# Altium footprint library TerminalBlock_Altech.PcbLib: 46 footprints (part 2 of 4)
Each footprint in its own frame and in the unit in brackets; x right, y up, seen from the top. Pads: shape width x height; smd on the part's side, far side on the other; paste and mask are expansions set on the pad; w line width, h text height; cw(c..) or ccw(c..) is an arc to the next point about the centre after c.
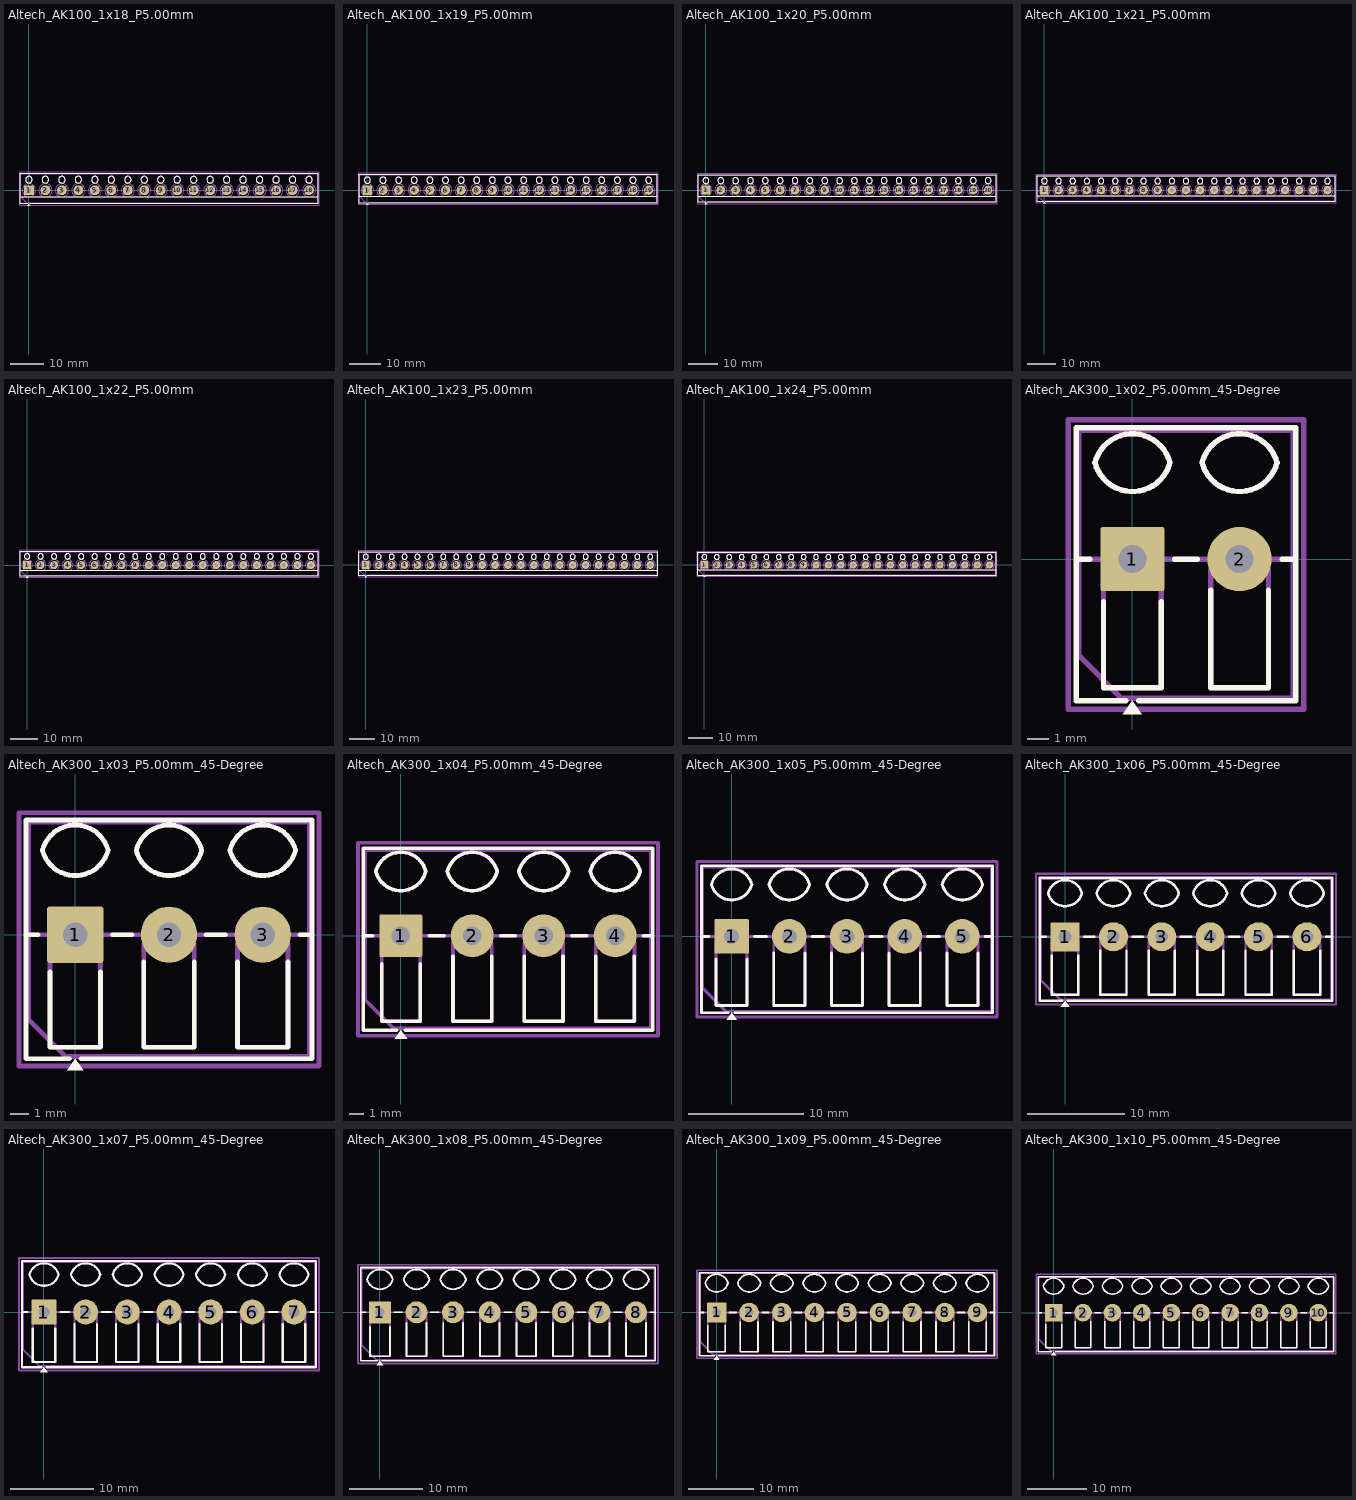
[diagram p1: the footprints below, top view; thin cyan lines are the x and y axes]

## Altech_AK100_1x18_P5.00mm [mm]
pads (18):
  rrect8% 3x3 hole 1.3: 1(0,0)
  round 3 hole 1.3: 2(5,0) 3(10,0) 4(15,0) 5(20,0) 6(25,0) 7(30,0) 8(35,0) 9(40,0) 10(45,0) 11(50,0) 12(55,0) 13(60,0) 14(65,0) 15(70,0) 16(75,0) 17(80,0) 18(85,0)
F.SilkS:
  circle w0.254: c0,3.2 r1
  circle w0.254: c5,3.2 r1
  circle w0.254: c10,3.2 r1
  circle w0.254: c15,3.2 r1
  circle w0.254: c20,3.2 r1
  circle w0.254: c25,3.2 r1
  circle w0.254: c30,3.2 r1
  circle w0.254: c35,3.2 r1
  circle w0.254: c40,3.2 r1
  circle w0.254: c45,3.2 r1
  circle w0.254: c50,3.2 r1
  circle w0.254: c55,3.2 r1
  circle w0.254: c60,3.2 r1
  circle w0.254: c65,3.2 r1
  circle w0.254: c70,3.2 r1
  circle w0.254: c75,3.2 r1
  circle w0.254: c80,3.2 r1
  circle w0.254: c85,3.2 r1
  region: 0.44,-4.73 -0.44,-4.73 0,-4.12
  lines w0.254: -2.62,-2 87.62,-2 ; -0.3,-4.12 -2.62,-4.12 -2.62,5.12 87.62,5.12 87.62,-4.12 0.3,-4.12
F.Fab:
  circle w0.254: c0,3.2 r1
  circle w0.254: c0,0 r2
  circle w0.254: c5,3.2 r1
  circle w0.254: c5,0 r2
  circle w0.254: c10,3.2 r1
  circle w0.254: c10,0 r2
  circle w0.254: c15,3.2 r1
  circle w0.254: c15,0 r2
  circle w0.254: c20,3.2 r1
  circle w0.254: c20,0 r2
  circle w0.254: c25,3.2 r1
  circle w0.254: c25,0 r2
  circle w0.254: c30,3.2 r1
  circle w0.254: c30,0 r2
  circle w0.254: c35,3.2 r1
  circle w0.254: c35,0 r2
  circle w0.254: c40,3.2 r1
  circle w0.254: c40,0 r2
  circle w0.254: c45,3.2 r1
  circle w0.254: c45,0 r2
  circle w0.254: c50,3.2 r1
  circle w0.254: c50,0 r2
  circle w0.254: c55,3.2 r1
  circle w0.254: c55,0 r2
  circle w0.254: c60,3.2 r1
  circle w0.254: c60,0 r2
  circle w0.254: c65,3.2 r1
  circle w0.254: c65,0 r2
  circle w0.254: c70,3.2 r1
  circle w0.254: c70,0 r2
  circle w0.254: c75,3.2 r1
  circle w0.254: c75,0 r2
  circle w0.254: c80,3.2 r1
  circle w0.254: c80,0 r2
  circle w0.254: c85,3.2 r1
  circle w0.254: c85,0 r2
  lines w0.254: -1.517,-1.273 1.273,1.517 ; -1.273,-1.517 1.517,1.273 ; 3.483,-1.273 6.273,1.517 ; 3.727,-1.517 6.517,1.273 ; 8.483,-1.273 11.273,1.517 ; 8.727,-1.517 11.517,1.273 ; 13.483,-1.273 16.273,1.517 ; 13.727,-1.517 16.517,1.273 ; 18.483,-1.273 21.273,1.517 ; 18.727,-1.517 21.517,1.273 ; 23.483,-1.273 26.273,1.517 ; 23.727,-1.517 26.517,1.273 ; 28.483,-1.273 31.273,1.517 ; 28.727,-1.517 31.517,1.273 ; 33.483,-1.273 36.273,1.517 ; 33.727,-1.517 36.517,1.273 ; 38.483,-1.273 41.273,1.517 ; 38.727,-1.517 41.517,1.273 ; 43.483,-1.273 46.273,1.517 ; 43.727,-1.517 46.517,1.273 ; 48.483,-1.273 51.273,1.517 ; 48.727,-1.517 51.517,1.273 ; 53.483,-1.273 56.273,1.517 ; 53.727,-1.517 56.517,1.273 ; 58.483,-1.273 61.273,1.517 ; 58.727,-1.517 61.517,1.273 ; 63.483,-1.273 66.273,1.517 ; 63.727,-1.517 66.517,1.273 ; 68.483,-1.273 71.273,1.517 ; 68.727,-1.517 71.517,1.273 ; 73.483,-1.273 76.273,1.517 ; 73.727,-1.517 76.517,1.273 ; 78.483,-1.273 81.273,1.517 ; 78.727,-1.517 81.517,1.273 ; 83.483,-1.273 86.273,1.517 ; 83.727,-1.517 86.517,1.273 ; 87.5,-2 -2.5,-2 ; -2.5,-2 -2.5,5 87.5,5 87.5,-4 -0.5,-4 -2.5,-2
  text "'.Designator'" at 38.453,-3.94 h1
F.CrtYd:
  lines w0.254: -3,-4.5 -3,5.5 88,5.5 88,-4.5 -3,-4.5

## Altech_AK100_1x19_P5.00mm [mm]
pads (19):
  rrect8% 3x3 hole 1.3: 1(0,0)
  round 3 hole 1.3: 2(5,0) 3(10,0) 4(15,0) 5(20,0) 6(25,0) 7(30,0) 8(35,0) 9(40,0) 10(45,0) 11(50,0) 12(55,0) 13(60,0) 14(65,0) 15(70,0) 16(75,0) 17(80,0) 18(85,0) 19(90,0)
F.SilkS:
  circle w0.254: c0,3.2 r1
  circle w0.254: c5,3.2 r1
  circle w0.254: c10,3.2 r1
  circle w0.254: c15,3.2 r1
  circle w0.254: c20,3.2 r1
  circle w0.254: c25,3.2 r1
  circle w0.254: c30,3.2 r1
  circle w0.254: c35,3.2 r1
  circle w0.254: c40,3.2 r1
  circle w0.254: c45,3.2 r1
  circle w0.254: c50,3.2 r1
  circle w0.254: c55,3.2 r1
  circle w0.254: c60,3.2 r1
  circle w0.254: c65,3.2 r1
  circle w0.254: c70,3.2 r1
  circle w0.254: c75,3.2 r1
  circle w0.254: c80,3.2 r1
  circle w0.254: c85,3.2 r1
  circle w0.254: c90,3.2 r1
  region: 0.44,-4.73 -0.44,-4.73 0,-4.12
  lines w0.254: -2.62,-2 92.62,-2 ; -0.3,-4.12 -2.62,-4.12 -2.62,5.12 92.62,5.12 92.62,-4.12 0.3,-4.12
F.Fab:
  circle w0.254: c0,3.2 r1
  circle w0.254: c0,0 r2
  circle w0.254: c5,3.2 r1
  circle w0.254: c5,0 r2
  circle w0.254: c10,3.2 r1
  circle w0.254: c10,0 r2
  circle w0.254: c15,3.2 r1
  circle w0.254: c15,0 r2
  circle w0.254: c20,3.2 r1
  circle w0.254: c20,0 r2
  circle w0.254: c25,3.2 r1
  circle w0.254: c25,0 r2
  circle w0.254: c30,3.2 r1
  circle w0.254: c30,0 r2
  circle w0.254: c35,3.2 r1
  circle w0.254: c35,0 r2
  circle w0.254: c40,3.2 r1
  circle w0.254: c40,0 r2
  circle w0.254: c45,3.2 r1
  circle w0.254: c45,0 r2
  circle w0.254: c50,3.2 r1
  circle w0.254: c50,0 r2
  circle w0.254: c55,3.2 r1
  circle w0.254: c55,0 r2
  circle w0.254: c60,3.2 r1
  circle w0.254: c60,0 r2
  circle w0.254: c65,3.2 r1
  circle w0.254: c65,0 r2
  circle w0.254: c70,3.2 r1
  circle w0.254: c70,0 r2
  circle w0.254: c75,3.2 r1
  circle w0.254: c75,0 r2
  circle w0.254: c80,3.2 r1
  circle w0.254: c80,0 r2
  circle w0.254: c85,3.2 r1
  circle w0.254: c85,0 r2
  circle w0.254: c90,3.2 r1
  circle w0.254: c90,0 r2
  lines w0.254: -1.517,-1.273 1.273,1.517 ; -1.273,-1.517 1.517,1.273 ; 3.483,-1.273 6.273,1.517 ; 3.727,-1.517 6.517,1.273 ; 8.483,-1.273 11.273,1.517 ; 8.727,-1.517 11.517,1.273 ; 13.483,-1.273 16.273,1.517 ; 13.727,-1.517 16.517,1.273 ; 18.483,-1.273 21.273,1.517 ; 18.727,-1.517 21.517,1.273 ; 23.483,-1.273 26.273,1.517 ; 23.727,-1.517 26.517,1.273 ; 28.483,-1.273 31.273,1.517 ; 28.727,-1.517 31.517,1.273 ; 33.483,-1.273 36.273,1.517 ; 33.727,-1.517 36.517,1.273 ; 38.483,-1.273 41.273,1.517 ; 38.727,-1.517 41.517,1.273 ; 43.483,-1.273 46.273,1.517 ; 43.727,-1.517 46.517,1.273 ; 48.483,-1.273 51.273,1.517 ; 48.727,-1.517 51.517,1.273 ; 53.483,-1.273 56.273,1.517 ; 53.727,-1.517 56.517,1.273 ; 58.483,-1.273 61.273,1.517 ; 58.727,-1.517 61.517,1.273 ; 63.483,-1.273 66.273,1.517 ; 63.727,-1.517 66.517,1.273 ; 68.483,-1.273 71.273,1.517 ; 68.727,-1.517 71.517,1.273 ; 73.483,-1.273 76.273,1.517 ; 73.727,-1.517 76.517,1.273 ; 78.483,-1.273 81.273,1.517 ; 78.727,-1.517 81.517,1.273 ; 83.483,-1.273 86.273,1.517 ; 83.727,-1.517 86.517,1.273 ; 88.483,-1.273 91.273,1.517 ; 88.727,-1.517 91.517,1.273 ; 92.5,-2 -2.5,-2 ; -2.5,-2 -2.5,5 92.5,5 92.5,-4 -0.5,-4 -2.5,-2
  text "'.Designator'" at 40.953,-3.94 h1
F.CrtYd:
  lines w0.254: -3,-4.5 -3,5.5 93,5.5 93,-4.5 -3,-4.5

## Altech_AK100_1x20_P5.00mm [mm]
pads (20):
  rrect8% 3x3 hole 1.3: 1(0,0)
  round 3 hole 1.3: 2(5,0) 3(10,0) 4(15,0) 5(20,0) 6(25,0) 7(30,0) 8(35,0) 9(40,0) 10(45,0) 11(50,0) 12(55,0) 13(60,0) 14(65,0) 15(70,0) 16(75,0) 17(80,0) 18(85,0) 19(90,0) 20(95,0)
F.SilkS:
  circle w0.254: c0,3.2 r1
  circle w0.254: c5,3.2 r1
  circle w0.254: c10,3.2 r1
  circle w0.254: c15,3.2 r1
  circle w0.254: c20,3.2 r1
  circle w0.254: c25,3.2 r1
  circle w0.254: c30,3.2 r1
  circle w0.254: c35,3.2 r1
  circle w0.254: c40,3.2 r1
  circle w0.254: c45,3.2 r1
  circle w0.254: c50,3.2 r1
  circle w0.254: c55,3.2 r1
  circle w0.254: c60,3.2 r1
  circle w0.254: c65,3.2 r1
  circle w0.254: c70,3.2 r1
  circle w0.254: c75,3.2 r1
  circle w0.254: c80,3.2 r1
  circle w0.254: c85,3.2 r1
  circle w0.254: c90,3.2 r1
  circle w0.254: c95,3.2 r1
  region: 0.44,-4.73 -0.44,-4.73 0,-4.12
  lines w0.254: -2.62,-2 97.62,-2 ; -0.3,-4.12 -2.62,-4.12 -2.62,5.12 97.62,5.12 97.62,-4.12 0.3,-4.12
F.Fab:
  circle w0.254: c0,3.2 r1
  circle w0.254: c0,0 r2
  circle w0.254: c5,3.2 r1
  circle w0.254: c5,0 r2
  circle w0.254: c10,3.2 r1
  circle w0.254: c10,0 r2
  circle w0.254: c15,3.2 r1
  circle w0.254: c15,0 r2
  circle w0.254: c20,3.2 r1
  circle w0.254: c20,0 r2
  circle w0.254: c25,3.2 r1
  circle w0.254: c25,0 r2
  circle w0.254: c30,3.2 r1
  circle w0.254: c30,0 r2
  circle w0.254: c35,3.2 r1
  circle w0.254: c35,0 r2
  circle w0.254: c40,3.2 r1
  circle w0.254: c40,0 r2
  circle w0.254: c45,3.2 r1
  circle w0.254: c45,0 r2
  circle w0.254: c50,3.2 r1
  circle w0.254: c50,0 r2
  circle w0.254: c55,3.2 r1
  circle w0.254: c55,0 r2
  circle w0.254: c60,3.2 r1
  circle w0.254: c60,0 r2
  circle w0.254: c65,3.2 r1
  circle w0.254: c65,0 r2
  circle w0.254: c70,3.2 r1
  circle w0.254: c70,0 r2
  circle w0.254: c75,3.2 r1
  circle w0.254: c75,0 r2
  circle w0.254: c80,3.2 r1
  circle w0.254: c80,0 r2
  circle w0.254: c85,3.2 r1
  circle w0.254: c85,0 r2
  circle w0.254: c90,3.2 r1
  circle w0.254: c90,0 r2
  circle w0.254: c95,3.2 r1
  circle w0.254: c95,0 r2
  lines w0.254: -1.517,-1.273 1.273,1.517 ; -1.273,-1.517 1.517,1.273 ; 3.483,-1.273 6.273,1.517 ; 3.727,-1.517 6.517,1.273 ; 8.483,-1.273 11.273,1.517 ; 8.727,-1.517 11.517,1.273 ; 13.483,-1.273 16.273,1.517 ; 13.727,-1.517 16.517,1.273 ; 18.483,-1.273 21.273,1.517 ; 18.727,-1.517 21.517,1.273 ; 23.483,-1.273 26.273,1.517 ; 23.727,-1.517 26.517,1.273 ; 28.483,-1.273 31.273,1.517 ; 28.727,-1.517 31.517,1.273 ; 33.483,-1.273 36.273,1.517 ; 33.727,-1.517 36.517,1.273 ; 38.483,-1.273 41.273,1.517 ; 38.727,-1.517 41.517,1.273 ; 43.483,-1.273 46.273,1.517 ; 43.727,-1.517 46.517,1.273 ; 48.483,-1.273 51.273,1.517 ; 48.727,-1.517 51.517,1.273 ; 53.483,-1.273 56.273,1.517 ; 53.727,-1.517 56.517,1.273 ; 58.483,-1.273 61.273,1.517 ; 58.727,-1.517 61.517,1.273 ; 63.483,-1.273 66.273,1.517 ; 63.727,-1.517 66.517,1.273 ; 68.483,-1.273 71.273,1.517 ; 68.727,-1.517 71.517,1.273 ; 73.483,-1.273 76.273,1.517 ; 73.727,-1.517 76.517,1.273 ; 78.483,-1.273 81.273,1.517 ; 78.727,-1.517 81.517,1.273 ; 83.483,-1.273 86.273,1.517 ; 83.727,-1.517 86.517,1.273 ; 88.483,-1.273 91.273,1.517 ; 88.727,-1.517 91.517,1.273 ; 93.483,-1.273 96.273,1.517 ; 93.727,-1.517 96.517,1.273 ; 97.5,-2 -2.5,-2 ; -2.5,-2 -2.5,5 97.5,5 97.5,-4 -0.5,-4 -2.5,-2
  text "'.Designator'" at 43.453,-3.94 h1
F.CrtYd:
  lines w0.254: -3,-4.5 -3,5.5 98,5.5 98,-4.5 -3,-4.5

## Altech_AK100_1x21_P5.00mm [mm]
pads (21):
  rrect8% 3x3 hole 1.3: 1(0,0)
  round 3 hole 1.3: 2(5,0) 3(10,0) 4(15,0) 5(20,0) 6(25,0) 7(30,0) 8(35,0) 9(40,0) 10(45,0) 11(50,0) 12(55,0) 13(60,0) 14(65,0) 15(70,0) 16(75,0) 17(80,0) 18(85,0) 19(90,0) 20(95,0) 21(100,0)
F.SilkS:
  circle w0.254: c0,3.2 r1
  circle w0.254: c5,3.2 r1
  circle w0.254: c10,3.2 r1
  circle w0.254: c15,3.2 r1
  circle w0.254: c20,3.2 r1
  circle w0.254: c25,3.2 r1
  circle w0.254: c30,3.2 r1
  circle w0.254: c35,3.2 r1
  circle w0.254: c40,3.2 r1
  circle w0.254: c45,3.2 r1
  circle w0.254: c50,3.2 r1
  circle w0.254: c55,3.2 r1
  circle w0.254: c60,3.2 r1
  circle w0.254: c65,3.2 r1
  circle w0.254: c70,3.2 r1
  circle w0.254: c75,3.2 r1
  circle w0.254: c80,3.2 r1
  circle w0.254: c85,3.2 r1
  circle w0.254: c90,3.2 r1
  circle w0.254: c95,3.2 r1
  circle w0.254: c100,3.2 r1
  region: 0.44,-4.73 -0.44,-4.73 0,-4.12
  lines w0.254: -2.62,-2 102.62,-2 ; -0.3,-4.12 -2.62,-4.12 -2.62,5.12 102.62,5.12 102.62,-4.12 0.3,-4.12
F.Fab:
  circle w0.254: c0,3.2 r1
  circle w0.254: c0,0 r2
  circle w0.254: c5,3.2 r1
  circle w0.254: c5,0 r2
  circle w0.254: c10,3.2 r1
  circle w0.254: c10,0 r2
  circle w0.254: c15,3.2 r1
  circle w0.254: c15,0 r2
  circle w0.254: c20,3.2 r1
  circle w0.254: c20,0 r2
  circle w0.254: c25,3.2 r1
  circle w0.254: c25,0 r2
  circle w0.254: c30,3.2 r1
  circle w0.254: c30,0 r2
  circle w0.254: c35,3.2 r1
  circle w0.254: c35,0 r2
  circle w0.254: c40,3.2 r1
  circle w0.254: c40,0 r2
  circle w0.254: c45,3.2 r1
  circle w0.254: c45,0 r2
  circle w0.254: c50,3.2 r1
  circle w0.254: c50,0 r2
  circle w0.254: c55,3.2 r1
  circle w0.254: c55,0 r2
  circle w0.254: c60,3.2 r1
  circle w0.254: c60,0 r2
  circle w0.254: c65,3.2 r1
  circle w0.254: c65,0 r2
  circle w0.254: c70,3.2 r1
  circle w0.254: c70,0 r2
  circle w0.254: c75,3.2 r1
  circle w0.254: c75,0 r2
  circle w0.254: c80,3.2 r1
  circle w0.254: c80,0 r2
  circle w0.254: c85,3.2 r1
  circle w0.254: c85,0 r2
  circle w0.254: c90,3.2 r1
  circle w0.254: c90,0 r2
  circle w0.254: c95,3.2 r1
  circle w0.254: c95,0 r2
  circle w0.254: c100,3.2 r1
  circle w0.254: c100,0 r2
  lines w0.254: -1.517,-1.273 1.273,1.517 ; -1.273,-1.517 1.517,1.273 ; 3.483,-1.273 6.273,1.517 ; 3.727,-1.517 6.517,1.273 ; 8.483,-1.273 11.273,1.517 ; 8.727,-1.517 11.517,1.273 ; 13.483,-1.273 16.273,1.517 ; 13.727,-1.517 16.517,1.273 ; 18.483,-1.273 21.273,1.517 ; 18.727,-1.517 21.517,1.273 ; 23.483,-1.273 26.273,1.517 ; 23.727,-1.517 26.517,1.273 ; 28.483,-1.273 31.273,1.517 ; 28.727,-1.517 31.517,1.273 ; 33.483,-1.273 36.273,1.517 ; 33.727,-1.517 36.517,1.273 ; 38.483,-1.273 41.273,1.517 ; 38.727,-1.517 41.517,1.273 ; 43.483,-1.273 46.273,1.517 ; 43.727,-1.517 46.517,1.273 ; 48.483,-1.273 51.273,1.517 ; 48.727,-1.517 51.517,1.273 ; 53.483,-1.273 56.273,1.517 ; 53.727,-1.517 56.517,1.273 ; 58.483,-1.273 61.273,1.517 ; 58.727,-1.517 61.517,1.273 ; 63.483,-1.273 66.273,1.517 ; 63.727,-1.517 66.517,1.273 ; 68.483,-1.273 71.273,1.517 ; 68.727,-1.517 71.517,1.273 ; 73.483,-1.273 76.273,1.517 ; 73.727,-1.517 76.517,1.273 ; 78.483,-1.273 81.273,1.517 ; 78.727,-1.517 81.517,1.273 ; 83.483,-1.273 86.273,1.517 ; 83.727,-1.517 86.517,1.273 ; 88.483,-1.273 91.273,1.517 ; 88.727,-1.517 91.517,1.273 ; 93.483,-1.273 96.273,1.517 ; 93.727,-1.517 96.517,1.273 ; 98.483,-1.273 101.273,1.517 ; 98.727,-1.517 101.517,1.273 ; 102.5,-2 -2.5,-2 ; -2.5,-2 -2.5,5 102.5,5 102.5,-4 -0.5,-4 -2.5,-2
  text "'.Designator'" at 45.953,-3.94 h1
F.CrtYd:
  lines w0.254: -3,-4.5 -3,5.5 103,5.5 103,-4.5 -3,-4.5

## Altech_AK100_1x22_P5.00mm [mm]
pads (22):
  rrect8% 3x3 hole 1.3: 1(0,0)
  round 3 hole 1.3: 2(5,0) 3(10,0) 4(15,0) 5(20,0) 6(25,0) 7(30,0) 8(35,0) 9(40,0) 10(45,0) 11(50,0) 12(55,0) 13(60,0) 14(65,0) 15(70,0) 16(75,0) 17(80,0) 18(85,0) 19(90,0) 20(95,0) 21(100,0) 22(105,0)
F.SilkS:
  circle w0.254: c0,3.2 r1
  circle w0.254: c5,3.2 r1
  circle w0.254: c10,3.2 r1
  circle w0.254: c15,3.2 r1
  circle w0.254: c20,3.2 r1
  circle w0.254: c25,3.2 r1
  circle w0.254: c30,3.2 r1
  circle w0.254: c35,3.2 r1
  circle w0.254: c40,3.2 r1
  circle w0.254: c45,3.2 r1
  circle w0.254: c50,3.2 r1
  circle w0.254: c55,3.2 r1
  circle w0.254: c60,3.2 r1
  circle w0.254: c65,3.2 r1
  circle w0.254: c70,3.2 r1
  circle w0.254: c75,3.2 r1
  circle w0.254: c80,3.2 r1
  circle w0.254: c85,3.2 r1
  circle w0.254: c90,3.2 r1
  circle w0.254: c95,3.2 r1
  circle w0.254: c100,3.2 r1
  circle w0.254: c105,3.2 r1
  region: 0.44,-4.73 -0.44,-4.73 0,-4.12
  lines w0.254: -2.62,-2 107.62,-2 ; -0.3,-4.12 -2.62,-4.12 -2.62,5.12 107.62,5.12 107.62,-4.12 0.3,-4.12
F.Fab:
  circle w0.254: c0,3.2 r1
  circle w0.254: c0,0 r2
  circle w0.254: c5,3.2 r1
  circle w0.254: c5,0 r2
  circle w0.254: c10,3.2 r1
  circle w0.254: c10,0 r2
  circle w0.254: c15,3.2 r1
  circle w0.254: c15,0 r2
  circle w0.254: c20,3.2 r1
  circle w0.254: c20,0 r2
  circle w0.254: c25,3.2 r1
  circle w0.254: c25,0 r2
  circle w0.254: c30,3.2 r1
  circle w0.254: c30,0 r2
  circle w0.254: c35,3.2 r1
  circle w0.254: c35,0 r2
  circle w0.254: c40,3.2 r1
  circle w0.254: c40,0 r2
  circle w0.254: c45,3.2 r1
  circle w0.254: c45,0 r2
  circle w0.254: c50,3.2 r1
  circle w0.254: c50,0 r2
  circle w0.254: c55,3.2 r1
  circle w0.254: c55,0 r2
  circle w0.254: c60,3.2 r1
  circle w0.254: c60,0 r2
  circle w0.254: c65,3.2 r1
  circle w0.254: c65,0 r2
  circle w0.254: c70,3.2 r1
  circle w0.254: c70,0 r2
  circle w0.254: c75,3.2 r1
  circle w0.254: c75,0 r2
  circle w0.254: c80,3.2 r1
  circle w0.254: c80,0 r2
  circle w0.254: c85,3.2 r1
  circle w0.254: c85,0 r2
  circle w0.254: c90,3.2 r1
  circle w0.254: c90,0 r2
  circle w0.254: c95,3.2 r1
  circle w0.254: c95,0 r2
  circle w0.254: c100,3.2 r1
  circle w0.254: c100,0 r2
  circle w0.254: c105,3.2 r1
  circle w0.254: c105,0 r2
  lines w0.254: -1.517,-1.273 1.273,1.517 ; -1.273,-1.517 1.517,1.273 ; 3.483,-1.273 6.273,1.517 ; 3.727,-1.517 6.517,1.273 ; 8.483,-1.273 11.273,1.517 ; 8.727,-1.517 11.517,1.273 ; 13.483,-1.273 16.273,1.517 ; 13.727,-1.517 16.517,1.273 ; 18.483,-1.273 21.273,1.517 ; 18.727,-1.517 21.517,1.273 ; 23.483,-1.273 26.273,1.517 ; 23.727,-1.517 26.517,1.273 ; 28.483,-1.273 31.273,1.517 ; 28.727,-1.517 31.517,1.273 ; 33.483,-1.273 36.273,1.517 ; 33.727,-1.517 36.517,1.273 ; 38.483,-1.273 41.273,1.517 ; 38.727,-1.517 41.517,1.273 ; 43.483,-1.273 46.273,1.517 ; 43.727,-1.517 46.517,1.273 ; 48.483,-1.273 51.273,1.517 ; 48.727,-1.517 51.517,1.273 ; 53.483,-1.273 56.273,1.517 ; 53.727,-1.517 56.517,1.273 ; 58.483,-1.273 61.273,1.517 ; 58.727,-1.517 61.517,1.273 ; 63.483,-1.273 66.273,1.517 ; 63.727,-1.517 66.517,1.273 ; 68.483,-1.273 71.273,1.517 ; 68.727,-1.517 71.517,1.273 ; 73.483,-1.273 76.273,1.517 ; 73.727,-1.517 76.517,1.273 ; 78.483,-1.273 81.273,1.517 ; 78.727,-1.517 81.517,1.273 ; 83.483,-1.273 86.273,1.517 ; 83.727,-1.517 86.517,1.273 ; 88.483,-1.273 91.273,1.517 ; 88.727,-1.517 91.517,1.273 ; 93.483,-1.273 96.273,1.517 ; 93.727,-1.517 96.517,1.273 ; 98.483,-1.273 101.273,1.517 ; 98.727,-1.517 101.517,1.273 ; 103.483,-1.273 106.273,1.517 ; 103.727,-1.517 106.517,1.273 ; 107.5,-2 -2.5,-2 ; -2.5,-2 -2.5,5 107.5,5 107.5,-4 -0.5,-4 -2.5,-2
  text "'.Designator'" at 48.453,-3.94 h1
F.CrtYd:
  lines w0.254: -3,-4.5 -3,5.5 108,5.5 108,-4.5 -3,-4.5

## Altech_AK100_1x23_P5.00mm [mm]
pads (23):
  rrect8% 3x3 hole 1.3: 1(0,0)
  round 3 hole 1.3: 2(5,0) 3(10,0) 4(15,0) 5(20,0) 6(25,0) 7(30,0) 8(35,0) 9(40,0) 10(45,0) 11(50,0) 12(55,0) 13(60,0) 14(65,0) 15(70,0) 16(75,0) 17(80,0) 18(85,0) 19(90,0) 20(95,0) 21(100,0) 22(105,0) 23(110,0)
F.SilkS:
  circle w0.254: c0,3.2 r1
  circle w0.254: c5,3.2 r1
  circle w0.254: c10,3.2 r1
  circle w0.254: c15,3.2 r1
  circle w0.254: c20,3.2 r1
  circle w0.254: c25,3.2 r1
  circle w0.254: c30,3.2 r1
  circle w0.254: c35,3.2 r1
  circle w0.254: c40,3.2 r1
  circle w0.254: c45,3.2 r1
  circle w0.254: c50,3.2 r1
  circle w0.254: c55,3.2 r1
  circle w0.254: c60,3.2 r1
  circle w0.254: c65,3.2 r1
  circle w0.254: c70,3.2 r1
  circle w0.254: c75,3.2 r1
  circle w0.254: c80,3.2 r1
  circle w0.254: c85,3.2 r1
  circle w0.254: c90,3.2 r1
  circle w0.254: c95,3.2 r1
  circle w0.254: c100,3.2 r1
  circle w0.254: c105,3.2 r1
  circle w0.254: c110,3.2 r1
  region: 0.44,-4.73 -0.44,-4.73 0,-4.12
  lines w0.254: -2.62,-2 112.62,-2 ; -0.3,-4.12 -2.62,-4.12 -2.62,5.12 112.62,5.12 112.62,-4.12 0.3,-4.12
F.Fab:
  circle w0.254: c0,3.2 r1
  circle w0.254: c0,0 r2
  circle w0.254: c5,3.2 r1
  circle w0.254: c5,0 r2
  circle w0.254: c10,3.2 r1
  circle w0.254: c10,0 r2
  circle w0.254: c15,3.2 r1
  circle w0.254: c15,0 r2
  circle w0.254: c20,3.2 r1
  circle w0.254: c20,0 r2
  circle w0.254: c25,3.2 r1
  circle w0.254: c25,0 r2
  circle w0.254: c30,3.2 r1
  circle w0.254: c30,0 r2
  circle w0.254: c35,3.2 r1
  circle w0.254: c35,0 r2
  circle w0.254: c40,3.2 r1
  circle w0.254: c40,0 r2
  circle w0.254: c45,3.2 r1
  circle w0.254: c45,0 r2
  circle w0.254: c50,3.2 r1
  circle w0.254: c50,0 r2
  circle w0.254: c55,3.2 r1
  circle w0.254: c55,0 r2
  circle w0.254: c60,3.2 r1
  circle w0.254: c60,0 r2
  circle w0.254: c65,3.2 r1
  circle w0.254: c65,0 r2
  circle w0.254: c70,3.2 r1
  circle w0.254: c70,0 r2
  circle w0.254: c75,3.2 r1
  circle w0.254: c75,0 r2
  circle w0.254: c80,3.2 r1
  circle w0.254: c80,0 r2
  circle w0.254: c85,3.2 r1
  circle w0.254: c85,0 r2
  circle w0.254: c90,3.2 r1
  circle w0.254: c90,0 r2
  circle w0.254: c95,3.2 r1
  circle w0.254: c95,0 r2
  circle w0.254: c100,3.2 r1
  circle w0.254: c100,0 r2
  circle w0.254: c105,3.2 r1
  circle w0.254: c105,0 r2
  circle w0.254: c110,3.2 r1
  circle w0.254: c110,0 r2
  lines w0.254: -1.517,-1.273 1.273,1.517 ; -1.273,-1.517 1.517,1.273 ; 3.483,-1.273 6.273,1.517 ; 3.727,-1.517 6.517,1.273 ; 8.483,-1.273 11.273,1.517 ; 8.727,-1.517 11.517,1.273 ; 13.483,-1.273 16.273,1.517 ; 13.727,-1.517 16.517,1.273 ; 18.483,-1.273 21.273,1.517 ; 18.727,-1.517 21.517,1.273 ; 23.483,-1.273 26.273,1.517 ; 23.727,-1.517 26.517,1.273 ; 28.483,-1.273 31.273,1.517 ; 28.727,-1.517 31.517,1.273 ; 33.483,-1.273 36.273,1.517 ; 33.727,-1.517 36.517,1.273 ; 38.483,-1.273 41.273,1.517 ; 38.727,-1.517 41.517,1.273 ; 43.483,-1.273 46.273,1.517 ; 43.727,-1.517 46.517,1.273 ; 48.483,-1.273 51.273,1.517 ; 48.727,-1.517 51.517,1.273 ; 53.483,-1.273 56.273,1.517 ; 53.727,-1.517 56.517,1.273 ; 58.483,-1.273 61.273,1.517 ; 58.727,-1.517 61.517,1.273 ; 63.483,-1.273 66.273,1.517 ; 63.727,-1.517 66.517,1.273 ; 68.483,-1.273 71.273,1.517 ; 68.727,-1.517 71.517,1.273 ; 73.483,-1.273 76.273,1.517 ; 73.727,-1.517 76.517,1.273 ; 78.483,-1.273 81.273,1.517 ; 78.727,-1.517 81.517,1.273 ; 83.483,-1.273 86.273,1.517 ; 83.727,-1.517 86.517,1.273 ; 88.483,-1.273 91.273,1.517 ; 88.727,-1.517 91.517,1.273 ; 93.483,-1.273 96.273,1.517 ; 93.727,-1.517 96.517,1.273 ; 98.483,-1.273 101.273,1.517 ; 98.727,-1.517 101.517,1.273 ; 103.483,-1.273 106.273,1.517 ; 103.727,-1.517 106.517,1.273 ; 108.483,-1.273 111.273,1.517 ; 108.727,-1.517 111.517,1.273 ; 112.5,-2 -2.5,-2 ; -2.5,-2 -2.5,5 112.5,5 112.5,-4 -0.5,-4 -2.5,-2
  text "'.Designator'" at 50.953,-3.94 h1
F.CrtYd:
  lines w0.254: -3,-4.5 -3,5.5 113,5.5 113,-4.5 -3,-4.5

## Altech_AK100_1x24_P5.00mm [mm]
pads (24):
  rrect8% 3x3 hole 1.3: 1(0,0)
  round 3 hole 1.3: 2(5,0) 3(10,0) 4(15,0) 5(20,0) 6(25,0) 7(30,0) 8(35,0) 9(40,0) 10(45,0) 11(50,0) 12(55,0) 13(60,0) 14(65,0) 15(70,0) 16(75,0) 17(80,0) 18(85,0) 19(90,0) 20(95,0) 21(100,0) 22(105,0) 23(110,0) 24(115,0)
F.SilkS:
  circle w0.254: c115,3.2 r1
  circle w0.254: c110,3.2 r1
  circle w0.254: c105,3.2 r1
  circle w0.254: c100,3.2 r1
  circle w0.254: c95,3.2 r1
  circle w0.254: c90,3.2 r1
  circle w0.254: c85,3.2 r1
  circle w0.254: c80,3.2 r1
  circle w0.254: c75,3.2 r1
  circle w0.254: c70,3.2 r1
  circle w0.254: c65,3.2 r1
  circle w0.254: c60,3.2 r1
  circle w0.254: c55,3.2 r1
  circle w0.254: c50,3.2 r1
  circle w0.254: c45,3.2 r1
  circle w0.254: c40,3.2 r1
  circle w0.254: c35,3.2 r1
  circle w0.254: c30,3.2 r1
  circle w0.254: c25,3.2 r1
  circle w0.254: c20,3.2 r1
  circle w0.254: c15,3.2 r1
  circle w0.254: c10,3.2 r1
  circle w0.254: c5,3.2 r1
  circle w0.254: c0,3.2 r1
  region: 0.44,-4.73 -0.44,-4.73 0,-4.12
  lines w0.254: -2.62,-2 117.62,-2 ; -0.3,-4.12 -2.62,-4.12 -2.62,5.12 117.62,5.12 117.62,-4.12 0.3,-4.12
F.Fab:
  circle w0.254: c115,0 r2
  circle w0.254: c115,3.2 r1
  circle w0.254: c110,0 r2
  circle w0.254: c110,3.2 r1
  circle w0.254: c105,0 r2
  circle w0.254: c105,3.2 r1
  circle w0.254: c100,0 r2
  circle w0.254: c100,3.2 r1
  circle w0.254: c95,0 r2
  circle w0.254: c95,3.2 r1
  circle w0.254: c90,0 r2
  circle w0.254: c90,3.2 r1
  circle w0.254: c85,0 r2
  circle w0.254: c85,3.2 r1
  circle w0.254: c80,0 r2
  circle w0.254: c80,3.2 r1
  circle w0.254: c75,0 r2
  circle w0.254: c75,3.2 r1
  circle w0.254: c70,0 r2
  circle w0.254: c70,3.2 r1
  circle w0.254: c65,0 r2
  circle w0.254: c65,3.2 r1
  circle w0.254: c60,0 r2
  circle w0.254: c60,3.2 r1
  circle w0.254: c55,0 r2
  circle w0.254: c55,3.2 r1
  circle w0.254: c50,0 r2
  circle w0.254: c50,3.2 r1
  circle w0.254: c45,0 r2
  circle w0.254: c45,3.2 r1
  circle w0.254: c40,0 r2
  circle w0.254: c40,3.2 r1
  circle w0.254: c35,0 r2
  circle w0.254: c35,3.2 r1
  circle w0.254: c30,0 r2
  circle w0.254: c30,3.2 r1
  circle w0.254: c25,0 r2
  circle w0.254: c25,3.2 r1
  circle w0.254: c20,0 r2
  circle w0.254: c20,3.2 r1
  circle w0.254: c15,0 r2
  circle w0.254: c15,3.2 r1
  circle w0.254: c10,0 r2
  circle w0.254: c10,3.2 r1
  circle w0.254: c5,0 r2
  circle w0.254: c5,3.2 r1
  circle w0.254: c0,0 r2
  circle w0.254: c0,3.2 r1
  lines w0.254: -1.517,-1.273 1.273,1.517 ; -1.273,-1.517 1.517,1.273 ; 3.483,-1.273 6.273,1.517 ; 3.727,-1.517 6.517,1.273 ; 8.483,-1.273 11.273,1.517 ; 8.727,-1.517 11.517,1.273 ; 13.483,-1.273 16.273,1.517 ; 13.727,-1.517 16.517,1.273 ; 18.483,-1.273 21.273,1.517 ; 18.727,-1.517 21.517,1.273 ; 23.483,-1.273 26.273,1.517 ; 23.727,-1.517 26.517,1.273 ; 28.483,-1.273 31.273,1.517 ; 28.727,-1.517 31.517,1.273 ; 33.483,-1.273 36.273,1.517 ; 33.727,-1.517 36.517,1.273 ; 38.483,-1.273 41.273,1.517 ; 38.727,-1.517 41.517,1.273 ; 43.483,-1.273 46.273,1.517 ; 43.727,-1.517 46.517,1.273 ; 48.483,-1.273 51.273,1.517 ; 48.727,-1.517 51.517,1.273 ; 53.483,-1.273 56.273,1.517 ; 53.727,-1.517 56.517,1.273 ; 58.483,-1.273 61.273,1.517 ; 58.727,-1.517 61.517,1.273 ; 63.483,-1.273 66.273,1.517 ; 63.727,-1.517 66.517,1.273 ; 68.483,-1.273 71.273,1.517 ; 68.727,-1.517 71.517,1.273 ; 73.483,-1.273 76.273,1.517 ; 73.727,-1.517 76.517,1.273 ; 78.483,-1.273 81.273,1.517 ; 78.727,-1.517 81.517,1.273 ; 83.483,-1.273 86.273,1.517 ; 83.727,-1.517 86.517,1.273 ; 88.483,-1.273 91.273,1.517 ; 88.727,-1.517 91.517,1.273 ; 93.483,-1.273 96.273,1.517 ; 93.727,-1.517 96.517,1.273 ; 98.483,-1.273 101.273,1.517 ; 98.727,-1.517 101.517,1.273 ; 103.483,-1.273 106.273,1.517 ; 103.727,-1.517 106.517,1.273 ; 108.483,-1.273 111.273,1.517 ; 108.727,-1.517 111.517,1.273 ; 113.483,-1.273 116.273,1.517 ; 113.727,-1.517 116.517,1.273 ; 117.5,-2 -2.5,-2 ; -2.5,-2 -0.5,-4 117.5,-4 117.5,5 -2.5,5 -2.5,-2
  text "'.Designator'" at 53.453,-3.94 h1
F.CrtYd:
  lines w0.254: -3,-4.5 118,-4.5 118,5.5 -3,5.5 -3,-4.5

## Altech_AK300_1x02_P5.00mm_45-Degree [mm]
pads (2):
  rrect8% 3x3 hole 1.3: 1(0,0)
  round 3 hole 1.3: 2(5,0)
F.SilkS:
  region: 0.44,-7.23 -0.44,-7.23 0,-6.62
  lines w0.254: -2.62,0 -1.98,0 ; -1.35,-1.98 -1.35,-6 1.35,-6 1.35,-1.98 ; -0.3,-6.62 -2.62,-6.62 -2.62,6.12 7.62,6.12 7.62,-6.62 0.3,-6.62 ; 1.98,0 3.02,0 ; 3.65,-1.448 3.65,-6 6.35,-6 6.35,-1.448 ; 6.98,0 7.62,0 ; -1.75,4.5 cw(c0,4.041) 1.75,4.5 cw(c0,4.959) -1.75,4.5 ; 3.25,4.5 cw(c5,4.041) 6.75,4.5 cw(c5,4.959) 3.25,4.5
F.Fab:
  lines w0.254: -2.5,0 7.5,0 ; -2.5,-4.5 -2.5,6 7.5,6 7.5,-6.5 -0.5,-6.5 -2.5,-4.5 ; -1.75,4.5 cw(c0,4.041) 1.75,4.5 cw(c0,4.959) -1.75,4.5 ; -1.35,-6 -1.35,-0.5 1.35,-0.5 1.35,-6 -1.35,-6 ; 3.25,4.5 cw(c5,4.041) 6.75,4.5 cw(c5,4.959) 3.25,4.5 ; 3.65,-6 3.65,-0.5 6.35,-0.5 6.35,-6 3.65,-6
  text "'.Designator'" at -1.547,0.11 h1
F.CrtYd:
  lines w0.254: -3,-7 -3,6.5 8,6.5 8,-7 -3,-7
3D body "Altech_AK300_1x02_P5.00mm_45-Degree.step": height 12.6, standoff -4.5, extent -2.5,-6.5 7.5,6

## Altech_AK300_1x03_P5.00mm_45-Degree [mm]
pads (3):
  rrect8% 3x3 hole 1.3: 1(0,0)
  round 3 hole 1.3: 2(5,0) 3(10,0)
F.SilkS:
  region: 0.44,-7.23 -0.44,-7.23 0,-6.62
  lines w0.254: -2.62,0 -1.98,0 ; -1.35,-1.98 -1.35,-6 1.35,-6 1.35,-1.98 ; -0.3,-6.62 -2.62,-6.62 -2.62,6.12 12.62,6.12 12.62,-6.62 0.3,-6.62 ; 1.98,0 3.02,0 ; 3.65,-1.448 3.65,-6 6.35,-6 6.35,-1.448 ; 6.98,0 8.02,0 ; 8.65,-1.448 8.65,-6 11.35,-6 11.35,-1.448 ; 11.98,0 12.62,0 ; -1.75,4.5 cw(c0,4.041) 1.75,4.5 cw(c0,4.959) -1.75,4.5 ; 3.25,4.5 cw(c5,4.041) 6.75,4.5 cw(c5,4.959) 3.25,4.5 ; 8.25,4.5 cw(c10,4.041) 11.75,4.5 cw(c10,4.959) 8.25,4.5
F.Fab:
  lines w0.254: -2.5,0 12.5,0 ; -2.5,-4.5 -2.5,6 12.5,6 12.5,-6.5 -0.5,-6.5 -2.5,-4.5 ; -1.75,4.5 cw(c0,4.041) 1.75,4.5 cw(c0,4.959) -1.75,4.5 ; -1.35,-6 -1.35,-0.5 1.35,-0.5 1.35,-6 -1.35,-6 ; 3.25,4.5 cw(c5,4.041) 6.75,4.5 cw(c5,4.959) 3.25,4.5 ; 3.65,-6 3.65,-0.5 6.35,-0.5 6.35,-6 3.65,-6 ; 8.25,4.5 cw(c10,4.041) 11.75,4.5 cw(c10,4.959) 8.25,4.5 ; 8.65,-6 8.65,-0.5 11.351,-0.5 11.351,-6 8.65,-6
  text "'.Designator'" at 0.953,0.11 h1
F.CrtYd:
  lines w0.254: -3,-7 -3,6.5 13,6.5 13,-7 -3,-7
3D body "Altech_AK300_1x03_P5.00mm_45-Degree.step": height 12.6, standoff -4.5, extent -2.5,-6.5 12.5,6

## Altech_AK300_1x04_P5.00mm_45-Degree [mm]
pads (4):
  rrect8% 3x3 hole 1.3: 1(0,0)
  round 3 hole 1.3: 2(5,0) 3(10,0) 4(15,0)
F.SilkS:
  region: 0.44,-7.23 -0.44,-7.23 0,-6.62
  lines w0.254: -2.62,0 -1.98,0 ; -1.35,-1.98 -1.35,-6 1.35,-6 1.35,-1.98 ; -0.3,-6.62 -2.62,-6.62 -2.62,6.12 17.62,6.12 17.62,-6.62 0.3,-6.62 ; 1.98,0 3.02,0 ; 3.65,-1.448 3.65,-6 6.35,-6 6.35,-1.448 ; 6.98,0 8.02,0 ; 8.65,-1.448 8.65,-6 11.35,-6 11.35,-1.448 ; 11.98,0 13.02,0 ; 13.65,-1.448 13.65,-6 16.35,-6 16.35,-1.448 ; 16.98,0 17.62,0 ; -1.75,4.5 cw(c0,4.041) 1.75,4.5 cw(c0,4.959) -1.75,4.5 ; 3.25,4.5 cw(c5,4.041) 6.75,4.5 cw(c5,4.959) 3.25,4.5 ; 8.25,4.5 cw(c10,4.041) 11.75,4.5 cw(c10,4.959) 8.25,4.5 ; 13.25,4.5 cw(c15,4.041) 16.75,4.5 cw(c15,4.959) 13.25,4.5
F.Fab:
  lines w0.254: -2.5,0 17.5,0 ; -2.5,-4.5 -2.5,6 17.5,6 17.5,-6.5 -0.5,-6.5 -2.5,-4.5 ; -1.75,4.5 cw(c0,4.041) 1.75,4.5 cw(c0,4.959) -1.75,4.5 ; -1.35,-6 -1.35,-0.5 1.35,-0.5 1.35,-6 -1.35,-6 ; 3.25,4.5 cw(c5,4.041) 6.75,4.5 cw(c5,4.959) 3.25,4.5 ; 3.65,-6 3.65,-0.5 6.35,-0.5 6.35,-6 3.65,-6 ; 8.25,4.5 cw(c10,4.041) 11.75,4.5 cw(c10,4.959) 8.25,4.5 ; 8.65,-6 8.65,-0.5 11.351,-0.5 11.351,-6 8.65,-6 ; 13.25,4.5 cw(c15,4.041) 16.75,4.5 cw(c15,4.959) 13.25,4.5 ; 13.65,-6 13.65,-0.5 16.351,-0.5 16.351,-6 13.65,-6
  text "'.Designator'" at 3.453,0.11 h1
F.CrtYd:
  lines w0.254: -3,-7 -3,6.5 18,6.5 18,-7 -3,-7
3D body "Altech_AK300_1x04_P5.00mm_45-Degree.step": height 12.6, standoff -4.5, extent -2.5,-6.5 17.5,6

## Altech_AK300_1x05_P5.00mm_45-Degree [mm]
pads (5):
  rrect8% 3x3 hole 1.3: 1(0,0)
  round 3 hole 1.3: 2(5,0) 3(10,0) 4(15,0) 5(20,0)
F.SilkS:
  region: 0.44,-7.23 -0.44,-7.23 0,-6.62
  lines w0.254: -2.62,0 -1.98,0 ; -1.35,-1.98 -1.35,-6 1.35,-6 1.35,-1.98 ; -0.3,-6.62 -2.62,-6.62 -2.62,6.12 22.62,6.12 22.62,-6.62 0.3,-6.62 ; 1.98,0 3.02,0 ; 3.65,-1.448 3.65,-6 6.35,-6 6.35,-1.448 ; 6.98,0 8.02,0 ; 8.65,-1.448 8.65,-6 11.35,-6 11.35,-1.448 ; 11.98,0 13.02,0 ; 13.65,-1.448 13.65,-6 16.35,-6 16.35,-1.448 ; 16.98,0 18.02,0 ; 18.65,-1.448 18.65,-6 21.35,-6 21.35,-1.448 ; 21.98,0 22.62,0 ; -1.75,4.5 cw(c0,4.041) 1.75,4.5 cw(c0,4.959) -1.75,4.5 ; 3.25,4.5 cw(c5,4.041) 6.75,4.5 cw(c5,4.959) 3.25,4.5 ; 8.25,4.5 cw(c10,4.041) 11.75,4.5 cw(c10,4.959) 8.25,4.5 ; 13.25,4.5 cw(c15,4.041) 16.75,4.5 cw(c15,4.959) 13.25,4.5 ; 18.25,4.5 cw(c20,4.041) 21.75,4.5 cw(c20,4.959) 18.25,4.5
F.Fab:
  lines w0.254: -2.5,0 22.5,0 ; -2.5,-4.5 -2.5,6 22.5,6 22.5,-6.5 -0.5,-6.5 -2.5,-4.5 ; -1.75,4.5 cw(c0,4.041) 1.75,4.5 cw(c0,4.959) -1.75,4.5 ; -1.35,-6 -1.35,-0.5 1.35,-0.5 1.35,-6 -1.35,-6 ; 3.25,4.5 cw(c5,4.041) 6.75,4.5 cw(c5,4.959) 3.25,4.5 ; 3.65,-6 3.65,-0.5 6.35,-0.5 6.35,-6 3.65,-6 ; 8.25,4.5 cw(c10,4.041) 11.75,4.5 cw(c10,4.959) 8.25,4.5 ; 8.65,-6 8.65,-0.5 11.351,-0.5 11.351,-6 8.65,-6 ; 13.25,4.5 cw(c15,4.041) 16.75,4.5 cw(c15,4.959) 13.25,4.5 ; 13.65,-6 13.65,-0.5 16.351,-0.5 16.351,-6 13.65,-6 ; 18.25,4.5 cw(c20,4.041) 21.75,4.5 cw(c20,4.959) 18.25,4.5 ; 18.65,-6 18.65,-0.5 21.35,-0.5 21.35,-6 18.65,-6
  text "'.Designator'" at 5.953,0.11 h1
F.CrtYd:
  lines w0.254: -3,-7 -3,6.5 23,6.5 23,-7 -3,-7
3D body "Altech_AK300_1x05_P5.00mm_45-Degree.step": height 12.6, standoff -4.5, extent -2.5,-6.5 22.5,6

## Altech_AK300_1x06_P5.00mm_45-Degree [mm]
pads (6):
  rrect8% 3x3 hole 1.3: 1(0,0)
  round 3 hole 1.3: 2(5,0) 3(10,0) 4(15,0) 5(20,0) 6(25,0)
F.SilkS:
  region: 0.44,-7.23 -0.44,-7.23 0,-6.62
  lines w0.254: -2.62,0 -1.98,0 ; -1.35,-1.98 -1.35,-6 1.35,-6 1.35,-1.98 ; -0.3,-6.62 -2.62,-6.62 -2.62,6.12 27.62,6.12 27.62,-6.62 0.3,-6.62 ; 1.98,0 3.02,0 ; 3.65,-1.448 3.65,-6 6.35,-6 6.35,-1.448 ; 6.98,0 8.02,0 ; 8.65,-1.448 8.65,-6 11.35,-6 11.35,-1.448 ; 11.98,0 13.02,0 ; 13.65,-1.448 13.65,-6 16.35,-6 16.35,-1.448 ; 16.98,0 18.02,0 ; 18.65,-1.448 18.65,-6 21.35,-6 21.35,-1.448 ; 21.98,0 23.02,0 ; 23.65,-1.448 23.65,-6 26.35,-6 26.35,-1.448 ; 26.98,0 27.62,0 ; -1.75,4.5 cw(c0,4.041) 1.75,4.5 cw(c0,4.959) -1.75,4.5 ; 3.25,4.5 cw(c5,4.041) 6.75,4.5 cw(c5,4.959) 3.25,4.5 ; 8.25,4.5 cw(c10,4.041) 11.75,4.5 cw(c10,4.959) 8.25,4.5 ; 13.25,4.5 cw(c15,4.041) 16.75,4.5 cw(c15,4.959) 13.25,4.5 ; 18.25,4.5 cw(c20,4.041) 21.75,4.5 cw(c20,4.959) 18.25,4.5 ; 23.25,4.5 cw(c25,4.041) 26.75,4.5 cw(c25,4.959) 23.25,4.5
F.Fab:
  lines w0.254: -2.5,0 27.5,0 ; -2.5,-4.5 -2.5,6 27.5,6 27.5,-6.5 -0.5,-6.5 -2.5,-4.5 ; -1.75,4.5 cw(c0,4.041) 1.75,4.5 cw(c0,4.959) -1.75,4.5 ; -1.35,-6 -1.35,-0.5 1.35,-0.5 1.35,-6 -1.35,-6 ; 3.25,4.5 cw(c5,4.041) 6.75,4.5 cw(c5,4.959) 3.25,4.5 ; 3.65,-6 3.65,-0.5 6.35,-0.5 6.35,-6 3.65,-6 ; 8.25,4.5 cw(c10,4.041) 11.75,4.5 cw(c10,4.959) 8.25,4.5 ; 8.65,-6 8.65,-0.5 11.351,-0.5 11.351,-6 8.65,-6 ; 13.25,4.5 cw(c15,4.041) 16.75,4.5 cw(c15,4.959) 13.25,4.5 ; 13.65,-6 13.65,-0.5 16.351,-0.5 16.351,-6 13.65,-6 ; 18.25,4.5 cw(c20,4.041) 21.75,4.5 cw(c20,4.959) 18.25,4.5 ; 18.65,-6 18.65,-0.5 21.35,-0.5 21.35,-6 18.65,-6 ; 23.25,4.5 cw(c25,4.041) 26.75,4.5 cw(c25,4.959) 23.25,4.5 ; 23.65,-6 23.65,-0.5 26.35,-0.5 26.35,-6 23.65,-6
  text "'.Designator'" at 8.453,0.11 h1
F.CrtYd:
  lines w0.254: -3,-7 -3,6.5 28,6.5 28,-7 -3,-7
3D body "Altech_AK300_1x06_P5.00mm_45-Degree.step": height 12.6, standoff -4.5, extent -2.5,-6.5 27.5,6

## Altech_AK300_1x07_P5.00mm_45-Degree [mm]
pads (7):
  rrect8% 3x3 hole 1.3: 1(0,0)
  round 3 hole 1.3: 2(5,0) 3(10,0) 4(15,0) 5(20,0) 6(25,0) 7(30,0)
F.SilkS:
  region: 0.44,-7.23 -0.44,-7.23 0,-6.62
  lines w0.254: -2.62,0 -1.98,0 ; -1.35,-1.98 -1.35,-6 1.35,-6 1.35,-1.98 ; -0.3,-6.62 -2.62,-6.62 -2.62,6.12 32.62,6.12 32.62,-6.62 0.3,-6.62 ; 1.98,0 3.02,0 ; 3.65,-1.448 3.65,-6 6.35,-6 6.35,-1.448 ; 6.98,0 8.02,0 ; 8.65,-1.448 8.65,-6 11.35,-6 11.35,-1.448 ; 11.98,0 13.02,0 ; 13.65,-1.448 13.65,-6 16.35,-6 16.35,-1.448 ; 16.98,0 18.02,0 ; 18.65,-1.448 18.65,-6 21.35,-6 21.35,-1.448 ; 21.98,0 23.02,0 ; 23.65,-1.448 23.65,-6 26.35,-6 26.35,-1.448 ; 26.98,0 28.02,0 ; 28.65,-1.448 28.65,-6 31.35,-6 31.35,-1.448 ; 31.98,0 32.62,0 ; -1.75,4.5 cw(c0,4.041) 1.75,4.5 cw(c0,4.959) -1.75,4.5 ; 3.25,4.5 cw(c5,4.041) 6.75,4.5 cw(c5,4.959) 3.25,4.5 ; 8.25,4.5 cw(c10,4.041) 11.75,4.5 cw(c10,4.959) 8.25,4.5 ; 13.25,4.5 cw(c15,4.041) 16.75,4.5 cw(c15,4.959) 13.25,4.5 ; 18.25,4.5 cw(c20,4.041) 21.75,4.5 cw(c20,4.959) 18.25,4.5 ; 23.25,4.5 cw(c25,4.041) 26.75,4.5 cw(c25,4.959) 23.25,4.5 ; 28.25,4.5 cw(c30,4.041) 31.75,4.5 cw(c30,4.959) 28.25,4.5
F.Fab:
  lines w0.254: -2.5,0 32.5,0 ; -2.5,-4.5 -2.5,6 32.5,6 32.5,-6.5 -0.5,-6.5 -2.5,-4.5 ; -1.75,4.5 cw(c0,4.041) 1.75,4.5 cw(c0,4.959) -1.75,4.5 ; -1.35,-6 -1.35,-0.5 1.35,-0.5 1.35,-6 -1.35,-6 ; 3.25,4.5 cw(c5,4.041) 6.75,4.5 cw(c5,4.959) 3.25,4.5 ; 3.65,-6 3.65,-0.5 6.35,-0.5 6.35,-6 3.65,-6 ; 8.25,4.5 cw(c10,4.041) 11.75,4.5 cw(c10,4.959) 8.25,4.5 ; 8.65,-6 8.65,-0.5 11.351,-0.5 11.351,-6 8.65,-6 ; 13.25,4.5 cw(c15,4.041) 16.75,4.5 cw(c15,4.959) 13.25,4.5 ; 13.65,-6 13.65,-0.5 16.351,-0.5 16.351,-6 13.65,-6 ; 18.25,4.5 cw(c20,4.041) 21.75,4.5 cw(c20,4.959) 18.25,4.5 ; 18.65,-6 18.65,-0.5 21.35,-0.5 21.35,-6 18.65,-6 ; 23.25,4.5 cw(c25,4.041) 26.75,4.5 cw(c25,4.959) 23.25,4.5 ; 23.65,-6 23.65,-0.5 26.35,-0.5 26.35,-6 23.65,-6 ; 28.25,4.5 cw(c30,4.041) 31.75,4.5 cw(c30,4.959) 28.25,4.5 ; 28.65,-6 28.65,-0.5 31.35,-0.5 31.35,-6 28.65,-6
  text "'.Designator'" at 10.953,0.11 h1
F.CrtYd:
  lines w0.254: -3,-7 -3,6.5 33,6.5 33,-7 -3,-7
3D body "Altech_AK300_1x07_P5.00mm_45-Degree.step": height 12.6, standoff -4.5, extent -2.5,-6.5 32.5,6

## Altech_AK300_1x08_P5.00mm_45-Degree [mm]
pads (8):
  rrect8% 3x3 hole 1.3: 1(0,0)
  round 3 hole 1.3: 2(5,0) 3(10,0) 4(15,0) 5(20,0) 6(25,0) 7(30,0) 8(35,0)
F.SilkS:
  region: 0.44,-7.23 -0.44,-7.23 0,-6.62
  lines w0.254: -2.62,0 -1.98,0 ; -1.35,-1.98 -1.35,-6 1.35,-6 1.35,-1.98 ; -0.3,-6.62 -2.62,-6.62 -2.62,6.12 37.62,6.12 37.62,-6.62 0.3,-6.62 ; 1.98,0 3.02,0 ; 3.65,-1.448 3.65,-6 6.35,-6 6.35,-1.448 ; 6.98,0 8.02,0 ; 8.65,-1.448 8.65,-6 11.35,-6 11.35,-1.448 ; 11.98,0 13.02,0 ; 13.65,-1.448 13.65,-6 16.35,-6 16.35,-1.448 ; 16.98,0 18.02,0 ; 18.65,-1.448 18.65,-6 21.35,-6 21.35,-1.448 ; 21.98,0 23.02,0 ; 23.65,-1.448 23.65,-6 26.35,-6 26.35,-1.448 ; 26.98,0 28.02,0 ; 28.65,-1.448 28.65,-6 31.35,-6 31.35,-1.448 ; 31.98,0 33.02,0 ; 33.65,-1.448 33.65,-6 36.35,-6 36.35,-1.448 ; 36.98,0 37.62,0 ; -1.75,4.5 cw(c0,4.041) 1.75,4.5 cw(c0,4.959) -1.75,4.5 ; 3.25,4.5 cw(c5,4.041) 6.75,4.5 cw(c5,4.959) 3.25,4.5 ; 8.25,4.5 cw(c10,4.041) 11.75,4.5 cw(c10,4.959) 8.25,4.5 ; 13.25,4.5 cw(c15,4.041) 16.75,4.5 cw(c15,4.959) 13.25,4.5 ; 18.25,4.5 cw(c20,4.041) 21.75,4.5 cw(c20,4.959) 18.25,4.5 ; 23.25,4.5 cw(c25,4.041) 26.75,4.5 cw(c25,4.959) 23.25,4.5 ; 28.25,4.5 cw(c30,4.041) 31.75,4.5 cw(c30,4.959) 28.25,4.5 ; 33.25,4.5 cw(c35,4.041) 36.75,4.5 cw(c35,4.959) 33.25,4.5
F.Fab:
  lines w0.254: -2.5,0 37.5,0 ; -2.5,-4.5 -2.5,6 37.5,6 37.5,-6.5 -0.5,-6.5 -2.5,-4.5 ; -1.75,4.5 cw(c0,4.041) 1.75,4.5 cw(c0,4.959) -1.75,4.5 ; -1.35,-6 -1.35,-0.5 1.35,-0.5 1.35,-6 -1.35,-6 ; 3.25,4.5 cw(c5,4.041) 6.75,4.5 cw(c5,4.959) 3.25,4.5 ; 3.65,-6 3.65,-0.5 6.35,-0.5 6.35,-6 3.65,-6 ; 8.25,4.5 cw(c10,4.041) 11.75,4.5 cw(c10,4.959) 8.25,4.5 ; 8.65,-6 8.65,-0.5 11.351,-0.5 11.351,-6 8.65,-6 ; 13.25,4.5 cw(c15,4.041) 16.75,4.5 cw(c15,4.959) 13.25,4.5 ; 13.65,-6 13.65,-0.5 16.351,-0.5 16.351,-6 13.65,-6 ; 18.25,4.5 cw(c20,4.041) 21.75,4.5 cw(c20,4.959) 18.25,4.5 ; 18.65,-6 18.65,-0.5 21.35,-0.5 21.35,-6 18.65,-6 ; 23.25,4.5 cw(c25,4.041) 26.75,4.5 cw(c25,4.959) 23.25,4.5 ; 23.65,-6 23.65,-0.5 26.35,-0.5 26.35,-6 23.65,-6 ; 28.25,4.5 cw(c30,4.041) 31.75,4.5 cw(c30,4.959) 28.25,4.5 ; 28.65,-6 28.65,-0.5 31.35,-0.5 31.35,-6 28.65,-6 ; 33.25,4.5 cw(c35,4.041) 36.75,4.5 cw(c35,4.959) 33.25,4.5 ; 33.65,-6 33.65,-0.5 36.35,-0.5 36.35,-6 33.65,-6
  text "'.Designator'" at 13.453,0.11 h1
F.CrtYd:
  lines w0.254: -3,-7 -3,6.5 38,6.5 38,-7 -3,-7
3D body "Altech_AK300_1x08_P5.00mm_45-Degree.step": height 12.6, standoff -4.5, extent -2.5,-6.5 37.5,6

## Altech_AK300_1x09_P5.00mm_45-Degree [mm]
pads (9):
  rrect8% 3x3 hole 1.3: 1(0,0)
  round 3 hole 1.3: 2(5,0) 3(10,0) 4(15,0) 5(20,0) 6(25,0) 7(30,0) 8(35,0) 9(40,0)
F.SilkS:
  region: 0.44,-7.23 -0.44,-7.23 0,-6.62
  lines w0.254: -2.62,0 -1.98,0 ; -1.35,-1.98 -1.35,-6 1.35,-6 1.35,-1.98 ; -0.3,-6.62 -2.62,-6.62 -2.62,6.12 42.62,6.12 42.62,-6.62 0.3,-6.62 ; 1.98,0 3.02,0 ; 3.65,-1.448 3.65,-6 6.35,-6 6.35,-1.448 ; 6.98,0 8.02,0 ; 8.65,-1.448 8.65,-6 11.35,-6 11.35,-1.448 ; 11.98,0 13.02,0 ; 13.65,-1.448 13.65,-6 16.35,-6 16.35,-1.448 ; 16.98,0 18.02,0 ; 18.65,-1.448 18.65,-6 21.35,-6 21.35,-1.448 ; 21.98,0 23.02,0 ; 23.65,-1.448 23.65,-6 26.35,-6 26.35,-1.448 ; 26.98,0 28.02,0 ; 28.65,-1.448 28.65,-6 31.35,-6 31.35,-1.448 ; 31.98,0 33.02,0 ; 33.65,-1.448 33.65,-6 36.35,-6 36.35,-1.448 ; 36.98,0 38.02,0 ; 38.65,-1.448 38.65,-6 41.35,-6 41.35,-1.448 ; 41.98,0 42.62,0 ; -1.75,4.5 cw(c0,4.041) 1.75,4.5 cw(c0,4.959) -1.75,4.5 ; 3.25,4.5 cw(c5,4.041) 6.75,4.5 cw(c5,4.959) 3.25,4.5 ; 8.25,4.5 cw(c10,4.041) 11.75,4.5 cw(c10,4.959) 8.25,4.5 ; 13.25,4.5 cw(c15,4.041) 16.75,4.5 cw(c15,4.959) 13.25,4.5 ; 18.25,4.5 cw(c20,4.041) 21.75,4.5 cw(c20,4.959) 18.25,4.5 ; 23.25,4.5 cw(c25,4.041) 26.75,4.5 cw(c25,4.959) 23.25,4.5 ; 28.25,4.5 cw(c30,4.041) 31.75,4.5 cw(c30,4.959) 28.25,4.5 ; 33.25,4.5 cw(c35,4.041) 36.75,4.5 cw(c35,4.959) 33.25,4.5 ; 38.25,4.5 cw(c40,4.041) 41.75,4.5 cw(c40,4.959) 38.25,4.5
F.Fab:
  lines w0.254: -2.5,0 42.5,0 ; -2.5,-4.5 -2.5,6 42.5,6 42.5,-6.5 -0.5,-6.5 -2.5,-4.5 ; -1.75,4.5 cw(c0,4.041) 1.75,4.5 cw(c0,4.959) -1.75,4.5 ; -1.35,-6 -1.35,-0.5 1.35,-0.5 1.35,-6 -1.35,-6 ; 3.25,4.5 cw(c5,4.041) 6.75,4.5 cw(c5,4.959) 3.25,4.5 ; 3.65,-6 3.65,-0.5 6.35,-0.5 6.35,-6 3.65,-6 ; 8.25,4.5 cw(c10,4.041) 11.75,4.5 cw(c10,4.959) 8.25,4.5 ; 8.65,-6 8.65,-0.5 11.351,-0.5 11.351,-6 8.65,-6 ; 13.25,4.5 cw(c15,4.041) 16.75,4.5 cw(c15,4.959) 13.25,4.5 ; 13.65,-6 13.65,-0.5 16.351,-0.5 16.351,-6 13.65,-6 ; 18.25,4.5 cw(c20,4.041) 21.75,4.5 cw(c20,4.959) 18.25,4.5 ; 18.65,-6 18.65,-0.5 21.35,-0.5 21.35,-6 18.65,-6 ; 23.25,4.5 cw(c25,4.041) 26.75,4.5 cw(c25,4.959) 23.25,4.5 ; 23.65,-6 23.65,-0.5 26.35,-0.5 26.35,-6 23.65,-6 ; 28.25,4.5 cw(c30,4.041) 31.75,4.5 cw(c30,4.959) 28.25,4.5 ; 28.65,-6 28.65,-0.5 31.35,-0.5 31.35,-6 28.65,-6 ; 33.25,4.5 cw(c35,4.041) 36.75,4.5 cw(c35,4.959) 33.25,4.5 ; 33.65,-6 33.65,-0.5 36.35,-0.5 36.35,-6 33.65,-6 ; 38.25,4.5 cw(c40,4.041) 41.75,4.5 cw(c40,4.959) 38.25,4.5 ; 38.65,-6 38.65,-0.5 41.35,-0.5 41.35,-6 38.65,-6
  text "'.Designator'" at 15.953,0.11 h1
F.CrtYd:
  lines w0.254: -3,-7 -3,6.5 43,6.5 43,-7 -3,-7
3D body "Altech_AK300_1x09_P5.00mm_45-Degree.step": height 12.6, standoff -4.5, extent -2.5,-6.5 42.5,6

## Altech_AK300_1x10_P5.00mm_45-Degree [mm]
pads (10):
  rrect8% 3x3 hole 1.3: 1(0,0)
  round 3 hole 1.3: 2(5,0) 3(10,0) 4(15,0) 5(20,0) 6(25,0) 7(30,0) 8(35,0) 9(40,0) 10(45,0)
F.SilkS:
  region: 0.44,-7.23 -0.44,-7.23 0,-6.62
  lines w0.254: -2.62,0 -1.98,0 ; -1.35,-1.98 -1.35,-6 1.35,-6 1.35,-1.98 ; -0.3,-6.62 -2.62,-6.62 -2.62,6.12 47.62,6.12 47.62,-6.62 0.3,-6.62 ; 1.98,0 3.02,0 ; 3.65,-1.448 3.65,-6 6.35,-6 6.35,-1.448 ; 6.98,0 8.02,0 ; 8.65,-1.448 8.65,-6 11.35,-6 11.35,-1.448 ; 11.98,0 13.02,0 ; 13.65,-1.448 13.65,-6 16.35,-6 16.35,-1.448 ; 16.98,0 18.02,0 ; 18.65,-1.448 18.65,-6 21.35,-6 21.35,-1.448 ; 21.98,0 23.02,0 ; 23.65,-1.448 23.65,-6 26.35,-6 26.35,-1.448 ; 26.98,0 28.02,0 ; 28.65,-1.448 28.65,-6 31.35,-6 31.35,-1.448 ; 31.98,0 33.02,0 ; 33.65,-1.448 33.65,-6 36.35,-6 36.35,-1.448 ; 36.98,0 38.02,0 ; 38.65,-1.448 38.65,-6 41.35,-6 41.35,-1.448 ; 41.98,0 43.02,0 ; 43.65,-1.448 43.65,-6 46.35,-6 46.35,-1.448 ; 46.98,0 47.62,0 ; -1.75,4.5 ccw(c0,4.959) 1.75,4.5 ccw(c0,4.041) -1.75,4.5 ; 3.25,4.5 ccw(c5,4.959) 6.75,4.5 ccw(c5,4.041) 3.25,4.5 ; 8.25,4.5 ccw(c10,4.959) 11.75,4.5 ccw(c10,4.041) 8.25,4.5 ; 13.25,4.5 ccw(c15,4.959) 16.75,4.5 ccw(c15,4.041) 13.25,4.5 ; 18.25,4.5 ccw(c20,4.959) 21.75,4.5 ccw(c20,4.041) 18.25,4.5 ; 23.25,4.5 ccw(c25,4.959) 26.75,4.5 ccw(c25,4.041) 23.25,4.5 ; 28.25,4.5 ccw(c30,4.959) 31.75,4.5 ccw(c30,4.041) 28.25,4.5 ; 33.25,4.5 ccw(c35,4.959) 36.75,4.5 ccw(c35,4.041) 33.25,4.5 ; 38.25,4.5 ccw(c40,4.959) 41.75,4.5 ccw(c40,4.041) 38.25,4.5 ; 43.25,4.5 ccw(c45,4.959) 46.75,4.5 ccw(c45,4.041) 43.25,4.5
F.Fab:
  lines w0.254: -2.5,0 47.5,0 ; -2.5,-4.5 -0.5,-6.5 47.5,-6.5 47.5,6 -2.5,6 -2.5,-4.5 ; -1.75,4.5 ccw(c0,4.959) 1.75,4.5 ccw(c0,4.041) -1.75,4.5 ; -1.35,-6 1.35,-6 1.35,-0.5 -1.35,-0.5 -1.35,-6 ; 3.25,4.5 ccw(c5,4.959) 6.75,4.5 ccw(c5,4.041) 3.25,4.5 ; 3.65,-6 6.35,-6 6.35,-0.5 3.65,-0.5 3.65,-6 ; 8.25,4.5 ccw(c10,4.959) 11.75,4.5 ccw(c10,4.041) 8.25,4.5 ; 8.65,-6 11.351,-6 11.351,-0.5 8.65,-0.5 8.65,-6 ; 13.25,4.5 ccw(c15,4.959) 16.75,4.5 ccw(c15,4.041) 13.25,4.5 ; 13.65,-6 16.351,-6 16.351,-0.5 13.65,-0.5 13.65,-6 ; 18.25,4.5 ccw(c20,4.959) 21.75,4.5 ccw(c20,4.041) 18.25,4.5 ; 18.65,-6 21.35,-6 21.35,-0.5 18.65,-0.5 18.65,-6 ; 23.25,4.5 ccw(c25,4.959) 26.75,4.5 ccw(c25,4.041) 23.25,4.5 ; 23.65,-6 26.35,-6 26.35,-0.5 23.65,-0.5 23.65,-6 ; 28.25,4.5 ccw(c30,4.959) 31.75,4.5 ccw(c30,4.041) 28.25,4.5 ; 28.65,-6 31.35,-6 31.35,-0.5 28.65,-0.5 28.65,-6 ; 33.25,4.5 ccw(c35,4.959) 36.75,4.5 ccw(c35,4.041) 33.25,4.5 ; 33.65,-6 36.35,-6 36.35,-0.5 33.65,-0.5 33.65,-6 ; 38.25,4.5 ccw(c40,4.959) 41.75,4.5 ccw(c40,4.041) 38.25,4.5 ; 38.65,-6 41.35,-6 41.35,-0.5 38.65,-0.5 38.65,-6 ; 43.25,4.5 ccw(c45,4.959) 46.75,4.5 ccw(c45,4.041) 43.25,4.5 ; 43.65,-6 46.35,-6 46.35,-0.5 43.65,-0.5 43.65,-6
  text "'.Designator'" at 18.453,0.11 h1
F.CrtYd:
  lines w0.254: -3,-7 48,-7 48,6.5 -3,6.5 -3,-7
3D body "Altech_AK300_1x10_P5.00mm_45-Degree.step": height 12.6, standoff -4.5, extent -2.5,-6.5 47.5,6